# Altium footprint library EISI.PcbLib: 695 footprints (part 44 of 44)
Each footprint in its own frame and in the unit in brackets; x right, y up, seen from the top. Pads: shape width x height; smd on the part's side, far side on the other; paste and mask are expansions set on the pad; w line width, h text height; cw(c..) or ccw(c..) is an arc to the next point about the centre after c.
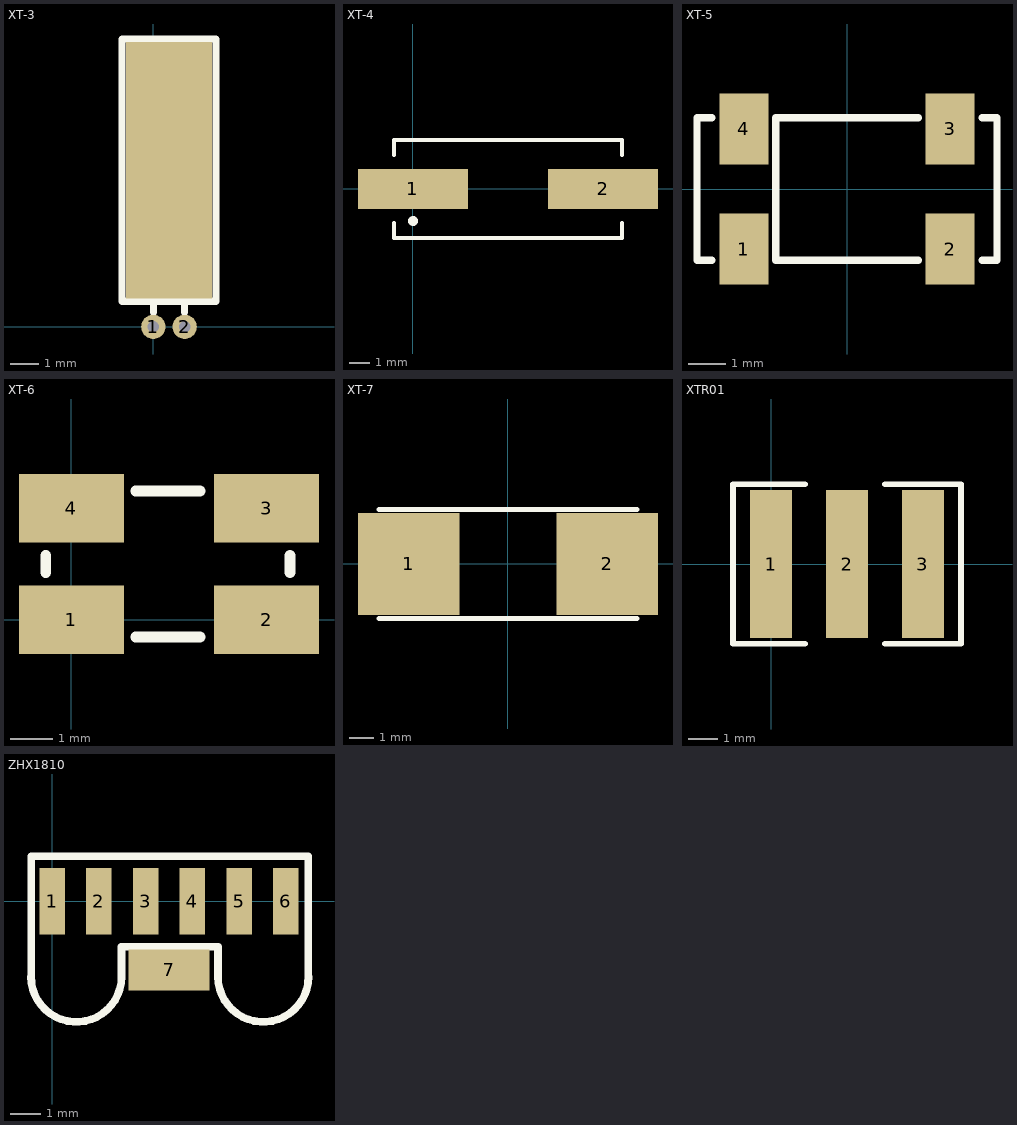
[diagram p43: the footprints below, top view; thin cyan lines are the x and y axes]

## XT-3 [mm] "Quartz pour horloge"
height 3
pads (3):
  round 0.85 hole 0.4: 1(0,0) 2(1.1,0)
  rect 3x9 smd: ""(0.55,5.5)
TopOverlay:
  lines w0.25: 0,0.5 0,0.9 ; 1.1,0.5 1.1,0.9 ; -1.1,0.9 -1.1,10.1 2.2,10.1 2.2,0.9 -1.1,0.9

## XT-4 [mm] "Quartz SMD HC49"
height 4.3
pads (2):
  rect 5.5x2 smd: 1(0,0) 2(9.5,0)
TopOverlay:
  circle w0.25: c0,-1.6 r0.125
  lines w0.2: -0.95,-1.7 -0.95,-2.45 10.45,-2.45 10.45,-1.7 ; -0.95,1.7 -0.95,2.45 10.45,2.45 10.45,1.7

## XT-5 [mm] "Quartz 17X 8x3.8mm"
height 2.5
pads (4):
  rect 1.3x1.9 smd: 1(-2.75,-1.6) 2(2.75,-1.6) 3(2.75,1.6) 4(-2.75,1.6)
TopOverlay:
  lines w0.2: -3.6,-1.9 -4,-1.9 -4,1.9 -3.6,1.9 ; 1.9,-1.9 -1.9,-1.9 -1.9,-0.95 -1.9,0.95 -1.9,1.9 1.9,1.9 ; 3.6,-1.9 4,-1.9 4,1.9 3.6,1.9

## XT-6 [mm] "Quartz 5.0 x 32.mm SMD"
height 0.7
pads (4):
  rect 2.45x1.6 smd: 1(0,0) 2(4.55,0) 3(4.55,2.6) 4(0,2.6)
TopOverlay:
  lines w0.254: -0.6,1.1 -0.6,1.5 ; 1.5,-0.4 3,-0.4 ; 1.5,3 3,3 ; 5.1,1.1 5.1,1.5

## XT-7 [mm] "Quartz 91SMX 10.4x4mm"
height 3.4
pads (2):
  rect 4.1x4.1 smd: 1(-4,0) 2(4,0)
TopOverlay:
  lines w0.2: -5.2,-2.2 5.2,-2.2 ; -5.2,2.2 -1.9,2.2 5.2,2.2

## XTR01 [mil]
pads (3):
  rect 55x195 smd: 1(0,0) 2(100,0) 3(200,0)
TopOverlay:
  lines w7.87: 45,-105 -50,-105 -50,105 45,105 ; 150,-105 250,-105 250,105 150,105

## ZHX1810 [mm] "IrDA transceiver"
height 2.8
pads (7):
  rect 0.85x2.2 smd: 1(0,0) 2(1.55,0) 3(3.1,0) 4(4.65,0) 5(6.2,0) 6(7.75,0)
  rect 2.7x1.35 smd: 7(3.875,-2.275)
TopOverlay:
  lines w0.25: -0.7,-2.5 -0.7,1.5 8.5,1.5 8.5,-2 8.5,-2.5 ; 2.3,-2.5 2.3,-2 2.3,-1.5 5.5,-1.5 5.5,-2.5 ; 8.5,-2.5 8.5,-2.5
  lines w0.254: -0.7,-2.5 ccw(c0.8,-2.5) 2.3,-2.5 ; 5.5,-2.5 ccw(c7,-2.5) 8.5,-2.5